# Altium integrated library ST Memory EPROM 16-512 Kbit.IntLib: 933 symbols (part 8 of 19)
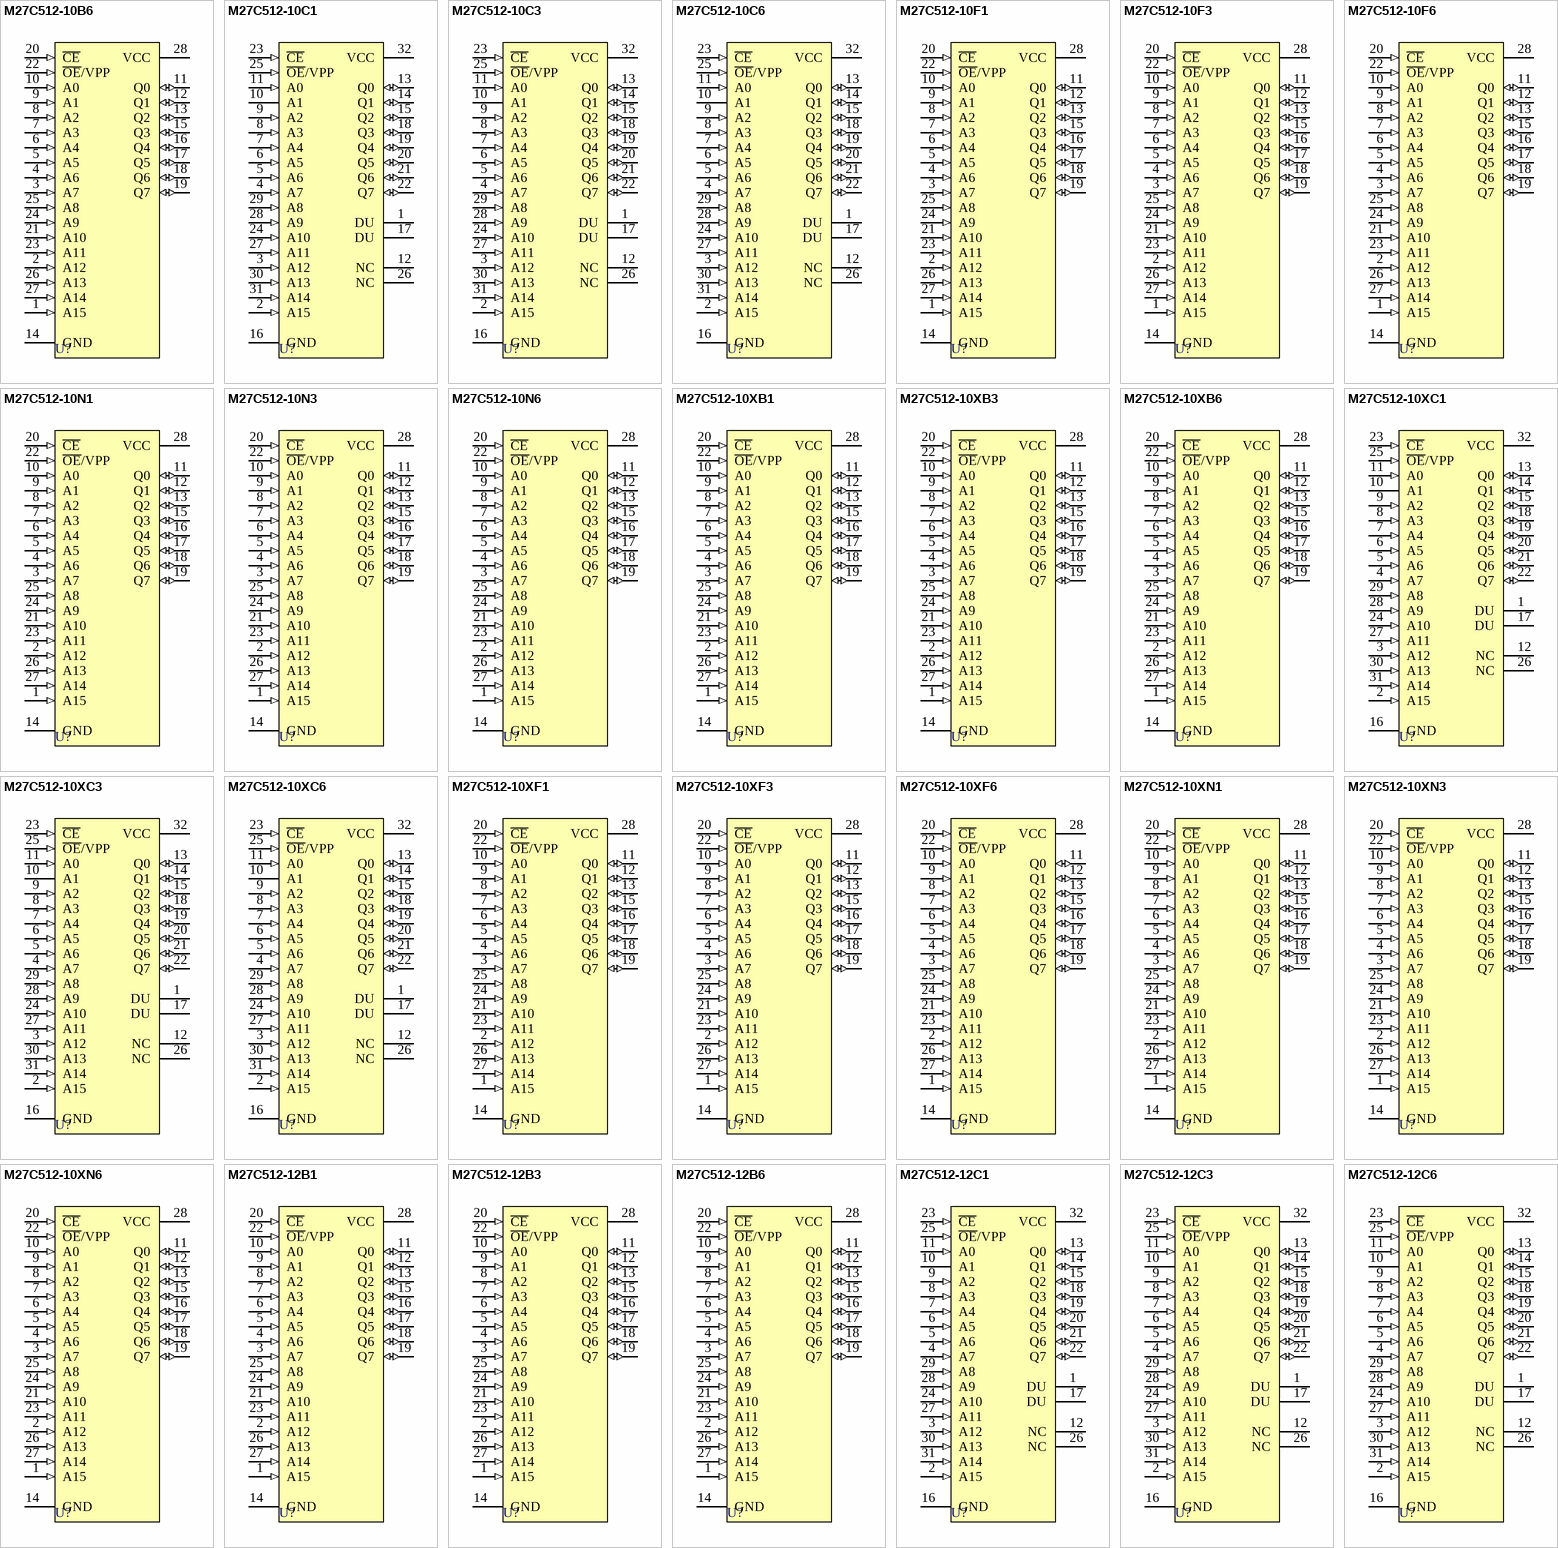
[diagram p41: symbols M27C512-10B6 to M27C512-12C6]

## M27C512-10C6
designator U?
512 Kbit (64Kb x 8) UV EPROM and OTP EPROM; Note: Do Not Use (DU) pin numbers 1 and 17.; Published: 24-Aug-2001; LatestRevisionDate: 6-Jun-2005; LatestRevisionNote: Stylized 3D Model Added.; DatasheetDocument: Nov-1998; PackageDocument: Jun-1998; PackageReference: PLCC32; Publisher: Altium Limited; Code_JEDEC: MS-016-AE; Code_IPC: PLCC/R-32; ComponentLink1Description: Manufacturer Link; ComponentLink1URL: http://www.st.com/; ComponentLink2Description: Datasheet; ComponentLink2URL: http://www.st.com/stonline/products/literature/ds/2387/m27c512.pdf
footprint PLCC32 (Leaded Chip Carrier; 32 Leads; Body 11.4 x 14 mm)
3D model M27C512-PLCC32 (Leaded Chip Carrier; 32 Leads; Body 11.4 x 14 mm)
pins: 1 DU, 2 A15 (in), 3 A12 (in), 4 A7 (in), 5 A6 (in), 6 A5 (in), 7 A4 (in), 8 A3 (in), 9 A2 (in), 10 A1, 11 A0 (in), 12 NC, 13 Q0 (io), 14 Q1 (io), 15 Q2 (io), 16 GND, 17 DU, 18 Q3 (io), 19 Q4 (io), 20 Q5 (io), 21 Q6 (io), 22 Q7 (io), 23 ~{CE} (in), 24 A10 (in), 25 ~{OE}/VPP (in), 26 NC, 27 A11 (in), 28 A9 (in), 29 A8 (in), 30 A13 (in), 31 A14 (in), 32 VCC

## M27C512-10F1
designator U?
512 Kbit (64Kb x 8) UV EPROM and OTP EPROM; Published: 24-Aug-2001; LatestRevisionDate: 6-Jun-2005; LatestRevisionNote: Stylized 3D Model Added.; DatasheetDocument: Nov-1998; PackageReference: FDIP28W; Publisher: Altium Limited; ComponentLink1Description: Manufacturer Link; ComponentLink1URL: http://www.st.com/; ComponentLink2Description: Datasheet; ComponentLink2URL: http://www.st.com/stonline/products/literature/ds/2387/m27c512.pdf
footprint FDIP28W (Ceramic Frit-seal DIP, Window; 28 Leads; Row Spacing 15.24 mm; Pitch 2.54 mm)
3D model FDIP28W (Ceramic Frit-seal DIP, Window; 28 Leads; Row Spacing 15.24 mm; Pitch 2.54 mm)
pins: 1 A15 (in), 2 A12 (in), 3 A7 (in), 4 A6 (in), 5 A5 (in), 6 A4 (in), 7 A3 (in), 8 A2 (in), 9 A1 (in), 10 A0 (in), 11 Q0 (io), 12 Q1 (io), 13 Q2 (io), 14 GND (power), 15 Q3 (io), 16 Q4 (io), 17 Q5 (io), 18 Q6 (io), 19 Q7 (io), 20 ~{CE} (in), 21 A10 (in), 22 ~{OE}/VPP (in), 23 A11 (in), 24 A9 (in), 25 A8 (in), 26 A13 (in), 27 A14 (in), 28 VCC (power)

## M27C512-10F3
designator U?
512 Kbit (64Kb x 8) UV EPROM and OTP EPROM; Published: 24-Aug-2001; LatestRevisionDate: 6-Jun-2005; LatestRevisionNote: Stylized 3D Model Added.; DatasheetDocument: Nov-1998; PackageReference: FDIP28W; Publisher: Altium Limited; ComponentLink1Description: Manufacturer Link; ComponentLink1URL: http://www.st.com/; ComponentLink2Description: Datasheet; ComponentLink2URL: http://www.st.com/stonline/products/literature/ds/2387/m27c512.pdf
footprint FDIP28W (Ceramic Frit-seal DIP, Window; 28 Leads; Row Spacing 15.24 mm; Pitch 2.54 mm)
3D model FDIP28W (Ceramic Frit-seal DIP, Window; 28 Leads; Row Spacing 15.24 mm; Pitch 2.54 mm)
pins: 1 A15 (in), 2 A12 (in), 3 A7 (in), 4 A6 (in), 5 A5 (in), 6 A4 (in), 7 A3 (in), 8 A2 (in), 9 A1 (in), 10 A0 (in), 11 Q0 (io), 12 Q1 (io), 13 Q2 (io), 14 GND (power), 15 Q3 (io), 16 Q4 (io), 17 Q5 (io), 18 Q6 (io), 19 Q7 (io), 20 ~{CE} (in), 21 A10 (in), 22 ~{OE}/VPP (in), 23 A11 (in), 24 A9 (in), 25 A8 (in), 26 A13 (in), 27 A14 (in), 28 VCC (power)

## M27C512-10F6
designator U?
512 Kbit (64Kb x 8) UV EPROM and OTP EPROM; Published: 24-Aug-2001; LatestRevisionDate: 6-Jun-2005; LatestRevisionNote: Stylized 3D Model Added.; DatasheetDocument: Nov-1998; PackageReference: FDIP28W; Publisher: Altium Limited; ComponentLink1Description: Manufacturer Link; ComponentLink1URL: http://www.st.com/; ComponentLink2Description: Datasheet; ComponentLink2URL: http://www.st.com/stonline/products/literature/ds/2387/m27c512.pdf
footprint FDIP28W (Ceramic Frit-seal DIP, Window; 28 Leads; Row Spacing 15.24 mm; Pitch 2.54 mm)
3D model FDIP28W (Ceramic Frit-seal DIP, Window; 28 Leads; Row Spacing 15.24 mm; Pitch 2.54 mm)
pins: 1 A15 (in), 2 A12 (in), 3 A7 (in), 4 A6 (in), 5 A5 (in), 6 A4 (in), 7 A3 (in), 8 A2 (in), 9 A1 (in), 10 A0 (in), 11 Q0 (io), 12 Q1 (io), 13 Q2 (io), 14 GND (power), 15 Q3 (io), 16 Q4 (io), 17 Q5 (io), 18 Q6 (io), 19 Q7 (io), 20 ~{CE} (in), 21 A10 (in), 22 ~{OE}/VPP (in), 23 A11 (in), 24 A9 (in), 25 A8 (in), 26 A13 (in), 27 A14 (in), 28 VCC (power)

## M27C512-10N1
designator U?
512 Kbit (64Kb x 8) UV EPROM and OTP EPROM; Published: 24-Aug-2001; LatestRevisionDate: 6-Jun-2005; LatestRevisionNote: Stylized 3D Model Added.; DatasheetDocument: Nov-1998; PackageDocument: Jul-1998; PackageReference: TSOP28; Publisher: Altium Limited; ComponentLink1Description: Manufacturer Link; ComponentLink1URL: http://www.st.com/; ComponentLink2Description: Datasheet; ComponentLink2URL: http://www.st.com/stonline/products/literature/ds/2387/m27c512.pdf
footprint TSOP28 (Shrink Small Outline; 28 Leads; Body Width 11.8 mm; Pitch 0.55 mm)
3D model TSOP28 (Shrink Small Outline; 28 Leads; Body Width 11.8 mm; Pitch 0.55 mm)
pins: 1 A15 (in), 2 A12 (in), 3 A7 (in), 4 A6 (in), 5 A5 (in), 6 A4 (in), 7 A3 (in), 8 A2 (in), 9 A1 (in), 10 A0 (in), 11 Q0 (io), 12 Q1 (io), 13 Q2 (io), 14 GND (power), 15 Q3 (io), 16 Q4 (io), 17 Q5 (io), 18 Q6 (io), 19 Q7 (io), 20 ~{CE} (in), 21 A10 (in), 22 ~{OE}/VPP (in), 23 A11 (in), 24 A9 (in), 25 A8 (in), 26 A13 (in), 27 A14 (in), 28 VCC (power)

## M27C512-10N3
designator U?
512 Kbit (64Kb x 8) UV EPROM and OTP EPROM; Published: 24-Aug-2001; LatestRevisionDate: 6-Jun-2005; LatestRevisionNote: Stylized 3D Model Added.; DatasheetDocument: Nov-1998; PackageDocument: Jul-1998; PackageReference: TSOP28; Publisher: Altium Limited; ComponentLink1Description: Manufacturer Link; ComponentLink1URL: http://www.st.com/; ComponentLink2Description: Datasheet; ComponentLink2URL: http://www.st.com/stonline/products/literature/ds/2387/m27c512.pdf
footprint TSOP28 (Shrink Small Outline; 28 Leads; Body Width 11.8 mm; Pitch 0.55 mm)
3D model TSOP28 (Shrink Small Outline; 28 Leads; Body Width 11.8 mm; Pitch 0.55 mm)
pins: 1 A15 (in), 2 A12 (in), 3 A7 (in), 4 A6 (in), 5 A5 (in), 6 A4 (in), 7 A3 (in), 8 A2 (in), 9 A1 (in), 10 A0 (in), 11 Q0 (io), 12 Q1 (io), 13 Q2 (io), 14 GND (power), 15 Q3 (io), 16 Q4 (io), 17 Q5 (io), 18 Q6 (io), 19 Q7 (io), 20 ~{CE} (in), 21 A10 (in), 22 ~{OE}/VPP (in), 23 A11 (in), 24 A9 (in), 25 A8 (in), 26 A13 (in), 27 A14 (in), 28 VCC (power)

## M27C512-10N6
designator U?
512 Kbit (64Kb x 8) UV EPROM and OTP EPROM; Published: 24-Aug-2001; LatestRevisionDate: 6-Jun-2005; LatestRevisionNote: Stylized 3D Model Added.; DatasheetDocument: Nov-1998; PackageDocument: Jul-1998; PackageReference: TSOP28; Publisher: Altium Limited; ComponentLink1Description: Manufacturer Link; ComponentLink1URL: http://www.st.com/; ComponentLink2Description: Datasheet; ComponentLink2URL: http://www.st.com/stonline/products/literature/ds/2387/m27c512.pdf
footprint TSOP28 (Shrink Small Outline; 28 Leads; Body Width 11.8 mm; Pitch 0.55 mm)
3D model TSOP28 (Shrink Small Outline; 28 Leads; Body Width 11.8 mm; Pitch 0.55 mm)
pins: 1 A15 (in), 2 A12 (in), 3 A7 (in), 4 A6 (in), 5 A5 (in), 6 A4 (in), 7 A3 (in), 8 A2 (in), 9 A1 (in), 10 A0 (in), 11 Q0 (io), 12 Q1 (io), 13 Q2 (io), 14 GND (power), 15 Q3 (io), 16 Q4 (io), 17 Q5 (io), 18 Q6 (io), 19 Q7 (io), 20 ~{CE} (in), 21 A10 (in), 22 ~{OE}/VPP (in), 23 A11 (in), 24 A9 (in), 25 A8 (in), 26 A13 (in), 27 A14 (in), 28 VCC (power)

## M27C512-10XB1
designator U?
512 Kbit (64Kb x 8) UV EPROM and OTP EPROM; Published: 24-Aug-2001; LatestRevisionDate: 6-Jun-2005; LatestRevisionNote: Stylized 3D Model Added.; DatasheetDocument: Nov-1998; PackageDocument: Jan-2003; PackageReference: PDIP28; Publisher: Altium Limited; ComponentLink1Description: Manufacturer Link; ComponentLink1URL: http://www.st.com/; ComponentLink2Description: Datasheet; ComponentLink2URL: http://www.st.com/stonline/products/literature/ds/2387/m27c512.pdf
footprint PDIP28 (DIP; 28 Leads; Row Spacing 15.24 mm; Pitch 2.54 mm)
3D model FDIP28W (DIP; 28 Leads; Row Spacing 15.24 mm; Pitch 2.54 mm)
pins: 1 A15 (in), 2 A12 (in), 3 A7 (in), 4 A6 (in), 5 A5 (in), 6 A4 (in), 7 A3 (in), 8 A2 (in), 9 A1 (in), 10 A0 (in), 11 Q0 (io), 12 Q1 (io), 13 Q2 (io), 14 GND (power), 15 Q3 (io), 16 Q4 (io), 17 Q5 (io), 18 Q6 (io), 19 Q7 (io), 20 ~{CE} (in), 21 A10 (in), 22 ~{OE}/VPP (in), 23 A11 (in), 24 A9 (in), 25 A8 (in), 26 A13 (in), 27 A14 (in), 28 VCC (power)

## M27C512-10XB3
designator U?
512 Kbit (64Kb x 8) UV EPROM and OTP EPROM; Published: 24-Aug-2001; LatestRevisionDate: 6-Jun-2005; LatestRevisionNote: Stylized 3D Model Added.; DatasheetDocument: Nov-1998; PackageDocument: Jan-2003; PackageReference: PDIP28; Publisher: Altium Limited; ComponentLink1Description: Manufacturer Link; ComponentLink1URL: http://www.st.com/; ComponentLink2Description: Datasheet; ComponentLink2URL: http://www.st.com/stonline/products/literature/ds/2387/m27c512.pdf
footprint PDIP28 (DIP; 28 Leads; Row Spacing 15.24 mm; Pitch 2.54 mm)
3D model FDIP28W (DIP; 28 Leads; Row Spacing 15.24 mm; Pitch 2.54 mm)
pins: 1 A15 (in), 2 A12 (in), 3 A7 (in), 4 A6 (in), 5 A5 (in), 6 A4 (in), 7 A3 (in), 8 A2 (in), 9 A1 (in), 10 A0 (in), 11 Q0 (io), 12 Q1 (io), 13 Q2 (io), 14 GND (power), 15 Q3 (io), 16 Q4 (io), 17 Q5 (io), 18 Q6 (io), 19 Q7 (io), 20 ~{CE} (in), 21 A10 (in), 22 ~{OE}/VPP (in), 23 A11 (in), 24 A9 (in), 25 A8 (in), 26 A13 (in), 27 A14 (in), 28 VCC (power)

## M27C512-10XB6
designator U?
512 Kbit (64Kb x 8) UV EPROM and OTP EPROM; Published: 24-Aug-2001; LatestRevisionDate: 6-Jun-2005; LatestRevisionNote: Stylized 3D Model Added.; DatasheetDocument: Nov-1998; PackageDocument: Jan-2003; PackageReference: PDIP28; Publisher: Altium Limited; ComponentLink1Description: Manufacturer Link; ComponentLink1URL: http://www.st.com/; ComponentLink2Description: Datasheet; ComponentLink2URL: http://www.st.com/stonline/products/literature/ds/2387/m27c512.pdf
footprint PDIP28 (DIP; 28 Leads; Row Spacing 15.24 mm; Pitch 2.54 mm)
3D model FDIP28W (DIP; 28 Leads; Row Spacing 15.24 mm; Pitch 2.54 mm)
pins: 1 A15 (in), 2 A12 (in), 3 A7 (in), 4 A6 (in), 5 A5 (in), 6 A4 (in), 7 A3 (in), 8 A2 (in), 9 A1 (in), 10 A0 (in), 11 Q0 (io), 12 Q1 (io), 13 Q2 (io), 14 GND (power), 15 Q3 (io), 16 Q4 (io), 17 Q5 (io), 18 Q6 (io), 19 Q7 (io), 20 ~{CE} (in), 21 A10 (in), 22 ~{OE}/VPP (in), 23 A11 (in), 24 A9 (in), 25 A8 (in), 26 A13 (in), 27 A14 (in), 28 VCC (power)

## M27C512-10XC1
designator U?
512 Kbit (64Kb x 8) UV EPROM and OTP EPROM; Note: Do Not Use (DU) pin numbers 1 and 17.; Published: 24-Aug-2001; LatestRevisionDate: 6-Jun-2005; LatestRevisionNote: Stylized 3D Model Added.; DatasheetDocument: Nov-1998; PackageDocument: Jun-1998; PackageReference: PLCC32; Publisher: Altium Limited; Code_JEDEC: MS-016-AE; Code_IPC: PLCC/R-32; ComponentLink1Description: Manufacturer Link; ComponentLink1URL: http://www.st.com/; ComponentLink2Description: Datasheet; ComponentLink2URL: http://www.st.com/stonline/products/literature/ds/2387/m27c512.pdf
footprint PLCC32 (Leaded Chip Carrier; 32 Leads; Body 11.4 x 14 mm)
3D model M27C512-PLCC32 (Leaded Chip Carrier; 32 Leads; Body 11.4 x 14 mm)
pins: 1 DU, 2 A15 (in), 3 A12 (in), 4 A7 (in), 5 A6 (in), 6 A5 (in), 7 A4 (in), 8 A3 (in), 9 A2 (in), 10 A1, 11 A0 (in), 12 NC, 13 Q0 (io), 14 Q1 (io), 15 Q2 (io), 16 GND, 17 DU, 18 Q3 (io), 19 Q4 (io), 20 Q5 (io), 21 Q6 (io), 22 Q7 (io), 23 ~{CE} (in), 24 A10 (in), 25 ~{OE}/VPP (in), 26 NC, 27 A11 (in), 28 A9 (in), 29 A8 (in), 30 A13 (in), 31 A14 (in), 32 VCC

## M27C512-10XC3
designator U?
512 Kbit (64Kb x 8) UV EPROM and OTP EPROM; Note: Do Not Use (DU) pin numbers 1 and 17.; Published: 24-Aug-2001; LatestRevisionDate: 6-Jun-2005; LatestRevisionNote: Stylized 3D Model Added.; DatasheetDocument: Nov-1998; PackageDocument: Jun-1998; PackageReference: PLCC32; Publisher: Altium Limited; Code_JEDEC: MS-016-AE; Code_IPC: PLCC/R-32; ComponentLink1Description: Manufacturer Link; ComponentLink1URL: http://www.st.com/; ComponentLink2Description: Datasheet; ComponentLink2URL: http://www.st.com/stonline/products/literature/ds/2387/m27c512.pdf
footprint PLCC32 (Leaded Chip Carrier; 32 Leads; Body 11.4 x 14 mm)
3D model M27C512-PLCC32 (Leaded Chip Carrier; 32 Leads; Body 11.4 x 14 mm)
pins: 1 DU, 2 A15 (in), 3 A12 (in), 4 A7 (in), 5 A6 (in), 6 A5 (in), 7 A4 (in), 8 A3 (in), 9 A2 (in), 10 A1, 11 A0 (in), 12 NC, 13 Q0 (io), 14 Q1 (io), 15 Q2 (io), 16 GND, 17 DU, 18 Q3 (io), 19 Q4 (io), 20 Q5 (io), 21 Q6 (io), 22 Q7 (io), 23 ~{CE} (in), 24 A10 (in), 25 ~{OE}/VPP (in), 26 NC, 27 A11 (in), 28 A9 (in), 29 A8 (in), 30 A13 (in), 31 A14 (in), 32 VCC

## M27C512-10XC6
designator U?
512 Kbit (64Kb x 8) UV EPROM and OTP EPROM; Note: Do Not Use (DU) pin numbers 1 and 17.; Published: 24-Aug-2001; LatestRevisionDate: 6-Jun-2005; LatestRevisionNote: Stylized 3D Model Added.; DatasheetDocument: Nov-1998; PackageDocument: Jun-1998; PackageReference: PLCC32; Publisher: Altium Limited; Code_JEDEC: MS-016-AE; Code_IPC: PLCC/R-32; ComponentLink1Description: Manufacturer Link; ComponentLink1URL: http://www.st.com/; ComponentLink2Description: Datasheet; ComponentLink2URL: http://www.st.com/stonline/products/literature/ds/2387/m27c512.pdf
footprint PLCC32 (Leaded Chip Carrier; 32 Leads; Body 11.4 x 14 mm)
3D model M27C512-PLCC32 (Leaded Chip Carrier; 32 Leads; Body 11.4 x 14 mm)
pins: 1 DU, 2 A15 (in), 3 A12 (in), 4 A7 (in), 5 A6 (in), 6 A5 (in), 7 A4 (in), 8 A3 (in), 9 A2 (in), 10 A1, 11 A0 (in), 12 NC, 13 Q0 (io), 14 Q1 (io), 15 Q2 (io), 16 GND, 17 DU, 18 Q3 (io), 19 Q4 (io), 20 Q5 (io), 21 Q6 (io), 22 Q7 (io), 23 ~{CE} (in), 24 A10 (in), 25 ~{OE}/VPP (in), 26 NC, 27 A11 (in), 28 A9 (in), 29 A8 (in), 30 A13 (in), 31 A14 (in), 32 VCC

## M27C512-10XF1
designator U?
512 Kbit (64Kb x 8) UV EPROM and OTP EPROM; Published: 24-Aug-2001; LatestRevisionDate: 6-Jun-2005; LatestRevisionNote: Stylized 3D Model Added.; DatasheetDocument: Nov-1998; PackageReference: FDIP28W; Publisher: Altium Limited; ComponentLink1Description: Manufacturer Link; ComponentLink1URL: http://www.st.com/; ComponentLink2Description: Datasheet; ComponentLink2URL: http://www.st.com/stonline/products/literature/ds/2387/m27c512.pdf
footprint FDIP28W (Ceramic Frit-seal DIP, Window; 28 Leads; Row Spacing 15.24 mm; Pitch 2.54 mm)
3D model FDIP28W (Ceramic Frit-seal DIP, Window; 28 Leads; Row Spacing 15.24 mm; Pitch 2.54 mm)
pins: 1 A15 (in), 2 A12 (in), 3 A7 (in), 4 A6 (in), 5 A5 (in), 6 A4 (in), 7 A3 (in), 8 A2 (in), 9 A1 (in), 10 A0 (in), 11 Q0 (io), 12 Q1 (io), 13 Q2 (io), 14 GND (power), 15 Q3 (io), 16 Q4 (io), 17 Q5 (io), 18 Q6 (io), 19 Q7 (io), 20 ~{CE} (in), 21 A10 (in), 22 ~{OE}/VPP (in), 23 A11 (in), 24 A9 (in), 25 A8 (in), 26 A13 (in), 27 A14 (in), 28 VCC (power)

## M27C512-10XF3
designator U?
512 Kbit (64Kb x 8) UV EPROM and OTP EPROM; Published: 24-Aug-2001; LatestRevisionDate: 6-Jun-2005; LatestRevisionNote: Stylized 3D Model Added.; DatasheetDocument: Nov-1998; PackageReference: FDIP28W; Publisher: Altium Limited; ComponentLink1Description: Manufacturer Link; ComponentLink1URL: http://www.st.com/; ComponentLink2Description: Datasheet; ComponentLink2URL: http://www.st.com/stonline/products/literature/ds/2387/m27c512.pdf
footprint FDIP28W (Ceramic Frit-seal DIP, Window; 28 Leads; Row Spacing 15.24 mm; Pitch 2.54 mm)
3D model FDIP28W (Ceramic Frit-seal DIP, Window; 28 Leads; Row Spacing 15.24 mm; Pitch 2.54 mm)
pins: 1 A15 (in), 2 A12 (in), 3 A7 (in), 4 A6 (in), 5 A5 (in), 6 A4 (in), 7 A3 (in), 8 A2 (in), 9 A1 (in), 10 A0 (in), 11 Q0 (io), 12 Q1 (io), 13 Q2 (io), 14 GND (power), 15 Q3 (io), 16 Q4 (io), 17 Q5 (io), 18 Q6 (io), 19 Q7 (io), 20 ~{CE} (in), 21 A10 (in), 22 ~{OE}/VPP (in), 23 A11 (in), 24 A9 (in), 25 A8 (in), 26 A13 (in), 27 A14 (in), 28 VCC (power)

## M27C512-10XF6
designator U?
512 Kbit (64Kb x 8) UV EPROM and OTP EPROM; Published: 24-Aug-2001; LatestRevisionDate: 6-Jun-2005; LatestRevisionNote: Stylized 3D Model Added.; DatasheetDocument: Nov-1998; PackageReference: FDIP28W; Publisher: Altium Limited; ComponentLink1Description: Manufacturer Link; ComponentLink1URL: http://www.st.com/; ComponentLink2Description: Datasheet; ComponentLink2URL: http://www.st.com/stonline/products/literature/ds/2387/m27c512.pdf
footprint FDIP28W (Ceramic Frit-seal DIP, Window; 28 Leads; Row Spacing 15.24 mm; Pitch 2.54 mm)
3D model FDIP28W (Ceramic Frit-seal DIP, Window; 28 Leads; Row Spacing 15.24 mm; Pitch 2.54 mm)
pins: 1 A15 (in), 2 A12 (in), 3 A7 (in), 4 A6 (in), 5 A5 (in), 6 A4 (in), 7 A3 (in), 8 A2 (in), 9 A1 (in), 10 A0 (in), 11 Q0 (io), 12 Q1 (io), 13 Q2 (io), 14 GND (power), 15 Q3 (io), 16 Q4 (io), 17 Q5 (io), 18 Q6 (io), 19 Q7 (io), 20 ~{CE} (in), 21 A10 (in), 22 ~{OE}/VPP (in), 23 A11 (in), 24 A9 (in), 25 A8 (in), 26 A13 (in), 27 A14 (in), 28 VCC (power)

## M27C512-10XN1
designator U?
512 Kbit (64Kb x 8) UV EPROM and OTP EPROM; Published: 24-Aug-2001; LatestRevisionDate: 6-Jun-2005; LatestRevisionNote: Stylized 3D Model Added.; DatasheetDocument: Nov-1998; PackageDocument: Jul-1998; PackageReference: TSOP28; Publisher: Altium Limited; ComponentLink1Description: Manufacturer Link; ComponentLink1URL: http://www.st.com/; ComponentLink2Description: Datasheet; ComponentLink2URL: http://www.st.com/stonline/products/literature/ds/2387/m27c512.pdf
footprint TSOP28 (Shrink Small Outline; 28 Leads; Body Width 11.8 mm; Pitch 0.55 mm)
3D model TSOP28 (Shrink Small Outline; 28 Leads; Body Width 11.8 mm; Pitch 0.55 mm)
pins: 1 A15 (in), 2 A12 (in), 3 A7 (in), 4 A6 (in), 5 A5 (in), 6 A4 (in), 7 A3 (in), 8 A2 (in), 9 A1 (in), 10 A0 (in), 11 Q0 (io), 12 Q1 (io), 13 Q2 (io), 14 GND (power), 15 Q3 (io), 16 Q4 (io), 17 Q5 (io), 18 Q6 (io), 19 Q7 (io), 20 ~{CE} (in), 21 A10 (in), 22 ~{OE}/VPP (in), 23 A11 (in), 24 A9 (in), 25 A8 (in), 26 A13 (in), 27 A14 (in), 28 VCC (power)

## M27C512-10XN3
designator U?
512 Kbit (64Kb x 8) UV EPROM and OTP EPROM; Published: 24-Aug-2001; LatestRevisionDate: 6-Jun-2005; LatestRevisionNote: Stylized 3D Model Added.; DatasheetDocument: Nov-1998; PackageDocument: Jul-1998; PackageReference: TSOP28; Publisher: Altium Limited; ComponentLink1Description: Manufacturer Link; ComponentLink1URL: http://www.st.com/; ComponentLink2Description: Datasheet; ComponentLink2URL: http://www.st.com/stonline/products/literature/ds/2387/m27c512.pdf
footprint TSOP28 (Shrink Small Outline; 28 Leads; Body Width 11.8 mm; Pitch 0.55 mm)
3D model TSOP28 (Shrink Small Outline; 28 Leads; Body Width 11.8 mm; Pitch 0.55 mm)
pins: 1 A15 (in), 2 A12 (in), 3 A7 (in), 4 A6 (in), 5 A5 (in), 6 A4 (in), 7 A3 (in), 8 A2 (in), 9 A1 (in), 10 A0 (in), 11 Q0 (io), 12 Q1 (io), 13 Q2 (io), 14 GND (power), 15 Q3 (io), 16 Q4 (io), 17 Q5 (io), 18 Q6 (io), 19 Q7 (io), 20 ~{CE} (in), 21 A10 (in), 22 ~{OE}/VPP (in), 23 A11 (in), 24 A9 (in), 25 A8 (in), 26 A13 (in), 27 A14 (in), 28 VCC (power)

## M27C512-10XN6
designator U?
512 Kbit (64Kb x 8) UV EPROM and OTP EPROM; Published: 24-Aug-2001; LatestRevisionDate: 6-Jun-2005; LatestRevisionNote: Stylized 3D Model Added.; DatasheetDocument: Nov-1998; PackageDocument: Jul-1998; PackageReference: TSOP28; Publisher: Altium Limited; ComponentLink1Description: Manufacturer Link; ComponentLink1URL: http://www.st.com/; ComponentLink2Description: Datasheet; ComponentLink2URL: http://www.st.com/stonline/products/literature/ds/2387/m27c512.pdf
footprint TSOP28 (Shrink Small Outline; 28 Leads; Body Width 11.8 mm; Pitch 0.55 mm)
3D model TSOP28 (Shrink Small Outline; 28 Leads; Body Width 11.8 mm; Pitch 0.55 mm)
pins: 1 A15 (in), 2 A12 (in), 3 A7 (in), 4 A6 (in), 5 A5 (in), 6 A4 (in), 7 A3 (in), 8 A2 (in), 9 A1 (in), 10 A0 (in), 11 Q0 (io), 12 Q1 (io), 13 Q2 (io), 14 GND (power), 15 Q3 (io), 16 Q4 (io), 17 Q5 (io), 18 Q6 (io), 19 Q7 (io), 20 ~{CE} (in), 21 A10 (in), 22 ~{OE}/VPP (in), 23 A11 (in), 24 A9 (in), 25 A8 (in), 26 A13 (in), 27 A14 (in), 28 VCC (power)

## M27C512-12B1
designator U?
512 Kbit (64Kb x 8) UV EPROM and OTP EPROM; Published: 24-Aug-2001; LatestRevisionDate: 6-Jun-2005; LatestRevisionNote: Stylized 3D Model Added.; DatasheetDocument: Nov-1998; PackageDocument: Jan-2003; PackageReference: PDIP28; Publisher: Altium Limited; ComponentLink1Description: Manufacturer Link; ComponentLink1URL: http://www.st.com/; ComponentLink2Description: Datasheet; ComponentLink2URL: http://www.st.com/stonline/products/literature/ds/2387/m27c512.pdf
footprint PDIP28 (DIP; 28 Leads; Row Spacing 15.24 mm; Pitch 2.54 mm)
3D model FDIP28W (DIP; 28 Leads; Row Spacing 15.24 mm; Pitch 2.54 mm)
pins: 1 A15 (in), 2 A12 (in), 3 A7 (in), 4 A6 (in), 5 A5 (in), 6 A4 (in), 7 A3 (in), 8 A2 (in), 9 A1 (in), 10 A0 (in), 11 Q0 (io), 12 Q1 (io), 13 Q2 (io), 14 GND (power), 15 Q3 (io), 16 Q4 (io), 17 Q5 (io), 18 Q6 (io), 19 Q7 (io), 20 ~{CE} (in), 21 A10 (in), 22 ~{OE}/VPP (in), 23 A11 (in), 24 A9 (in), 25 A8 (in), 26 A13 (in), 27 A14 (in), 28 VCC (power)

## M27C512-12B3
designator U?
512 Kbit (64Kb x 8) UV EPROM and OTP EPROM; Published: 24-Aug-2001; LatestRevisionDate: 6-Jun-2005; LatestRevisionNote: Stylized 3D Model Added.; DatasheetDocument: Nov-1998; PackageDocument: Jan-2003; PackageReference: PDIP28; Publisher: Altium Limited; ComponentLink1Description: Manufacturer Link; ComponentLink1URL: http://www.st.com/; ComponentLink2Description: Datasheet; ComponentLink2URL: http://www.st.com/stonline/products/literature/ds/2387/m27c512.pdf
footprint PDIP28 (DIP; 28 Leads; Row Spacing 15.24 mm; Pitch 2.54 mm)
3D model FDIP28W (DIP; 28 Leads; Row Spacing 15.24 mm; Pitch 2.54 mm)
pins: 1 A15 (in), 2 A12 (in), 3 A7 (in), 4 A6 (in), 5 A5 (in), 6 A4 (in), 7 A3 (in), 8 A2 (in), 9 A1 (in), 10 A0 (in), 11 Q0 (io), 12 Q1 (io), 13 Q2 (io), 14 GND (power), 15 Q3 (io), 16 Q4 (io), 17 Q5 (io), 18 Q6 (io), 19 Q7 (io), 20 ~{CE} (in), 21 A10 (in), 22 ~{OE}/VPP (in), 23 A11 (in), 24 A9 (in), 25 A8 (in), 26 A13 (in), 27 A14 (in), 28 VCC (power)

## M27C512-12B6
designator U?
512 Kbit (64Kb x 8) UV EPROM and OTP EPROM; Published: 24-Aug-2001; LatestRevisionDate: 6-Jun-2005; LatestRevisionNote: Stylized 3D Model Added.; DatasheetDocument: Nov-1998; PackageDocument: Jan-2003; PackageReference: PDIP28; Publisher: Altium Limited; ComponentLink1Description: Manufacturer Link; ComponentLink1URL: http://www.st.com/; ComponentLink2Description: Datasheet; ComponentLink2URL: http://www.st.com/stonline/products/literature/ds/2387/m27c512.pdf
footprint PDIP28 (DIP; 28 Leads; Row Spacing 15.24 mm; Pitch 2.54 mm)
3D model FDIP28W (DIP; 28 Leads; Row Spacing 15.24 mm; Pitch 2.54 mm)
pins: 1 A15 (in), 2 A12 (in), 3 A7 (in), 4 A6 (in), 5 A5 (in), 6 A4 (in), 7 A3 (in), 8 A2 (in), 9 A1 (in), 10 A0 (in), 11 Q0 (io), 12 Q1 (io), 13 Q2 (io), 14 GND (power), 15 Q3 (io), 16 Q4 (io), 17 Q5 (io), 18 Q6 (io), 19 Q7 (io), 20 ~{CE} (in), 21 A10 (in), 22 ~{OE}/VPP (in), 23 A11 (in), 24 A9 (in), 25 A8 (in), 26 A13 (in), 27 A14 (in), 28 VCC (power)

## M27C512-12C1
designator U?
512 Kbit (64Kb x 8) UV EPROM and OTP EPROM; Note: Do Not Use (DU) pin numbers 1 and 17.; Published: 24-Aug-2001; LatestRevisionDate: 6-Jun-2005; LatestRevisionNote: Stylized 3D Model Added.; DatasheetDocument: Nov-1998; PackageDocument: Jun-1998; PackageReference: PLCC32; Publisher: Altium Limited; Code_JEDEC: MS-016-AE; Code_IPC: PLCC/R-32; ComponentLink1Description: Manufacturer Link; ComponentLink1URL: http://www.st.com/; ComponentLink2Description: Datasheet; ComponentLink2URL: http://www.st.com/stonline/products/literature/ds/2387/m27c512.pdf
footprint PLCC32 (Leaded Chip Carrier; 32 Leads; Body 11.4 x 14 mm)
3D model M27C512-PLCC32 (Leaded Chip Carrier; 32 Leads; Body 11.4 x 14 mm)
pins: 1 DU, 2 A15 (in), 3 A12 (in), 4 A7 (in), 5 A6 (in), 6 A5 (in), 7 A4 (in), 8 A3 (in), 9 A2 (in), 10 A1, 11 A0 (in), 12 NC, 13 Q0 (io), 14 Q1 (io), 15 Q2 (io), 16 GND, 17 DU, 18 Q3 (io), 19 Q4 (io), 20 Q5 (io), 21 Q6 (io), 22 Q7 (io), 23 ~{CE} (in), 24 A10 (in), 25 ~{OE}/VPP (in), 26 NC, 27 A11 (in), 28 A9 (in), 29 A8 (in), 30 A13 (in), 31 A14 (in), 32 VCC

## M27C512-12C3
designator U?
512 Kbit (64Kb x 8) UV EPROM and OTP EPROM; Note: Do Not Use (DU) pin numbers 1 and 17.; Published: 24-Aug-2001; LatestRevisionDate: 6-Jun-2005; LatestRevisionNote: Stylized 3D Model Added.; DatasheetDocument: Nov-1998; PackageDocument: Jun-1998; PackageReference: PLCC32; Publisher: Altium Limited; Code_JEDEC: MS-016-AE; Code_IPC: PLCC/R-32; ComponentLink1Description: Manufacturer Link; ComponentLink1URL: http://www.st.com/; ComponentLink2Description: Datasheet; ComponentLink2URL: http://www.st.com/stonline/products/literature/ds/2387/m27c512.pdf
footprint PLCC32 (Leaded Chip Carrier; 32 Leads; Body 11.4 x 14 mm)
3D model M27C512-PLCC32 (Leaded Chip Carrier; 32 Leads; Body 11.4 x 14 mm)
pins: 1 DU, 2 A15 (in), 3 A12 (in), 4 A7 (in), 5 A6 (in), 6 A5 (in), 7 A4 (in), 8 A3 (in), 9 A2 (in), 10 A1, 11 A0 (in), 12 NC, 13 Q0 (io), 14 Q1 (io), 15 Q2 (io), 16 GND, 17 DU, 18 Q3 (io), 19 Q4 (io), 20 Q5 (io), 21 Q6 (io), 22 Q7 (io), 23 ~{CE} (in), 24 A10 (in), 25 ~{OE}/VPP (in), 26 NC, 27 A11 (in), 28 A9 (in), 29 A8 (in), 30 A13 (in), 31 A14 (in), 32 VCC

## M27C512-12C6
designator U?
512 Kbit (64Kb x 8) UV EPROM and OTP EPROM; Note: Do Not Use (DU) pin numbers 1 and 17.; Published: 24-Aug-2001; LatestRevisionDate: 6-Jun-2005; LatestRevisionNote: Stylized 3D Model Added.; DatasheetDocument: Nov-1998; PackageDocument: Jun-1998; PackageReference: PLCC32; Publisher: Altium Limited; Code_JEDEC: MS-016-AE; Code_IPC: PLCC/R-32; ComponentLink1Description: Manufacturer Link; ComponentLink1URL: http://www.st.com/; ComponentLink2Description: Datasheet; ComponentLink2URL: http://www.st.com/stonline/products/literature/ds/2387/m27c512.pdf
footprint PLCC32 (Leaded Chip Carrier; 32 Leads; Body 11.4 x 14 mm)
3D model M27C512-PLCC32 (Leaded Chip Carrier; 32 Leads; Body 11.4 x 14 mm)
pins: 1 DU, 2 A15 (in), 3 A12 (in), 4 A7 (in), 5 A6 (in), 6 A5 (in), 7 A4 (in), 8 A3 (in), 9 A2 (in), 10 A1, 11 A0 (in), 12 NC, 13 Q0 (io), 14 Q1 (io), 15 Q2 (io), 16 GND, 17 DU, 18 Q3 (io), 19 Q4 (io), 20 Q5 (io), 21 Q6 (io), 22 Q7 (io), 23 ~{CE} (in), 24 A10 (in), 25 ~{OE}/VPP (in), 26 NC, 27 A11 (in), 28 A9 (in), 29 A8 (in), 30 A13 (in), 31 A14 (in), 32 VCC

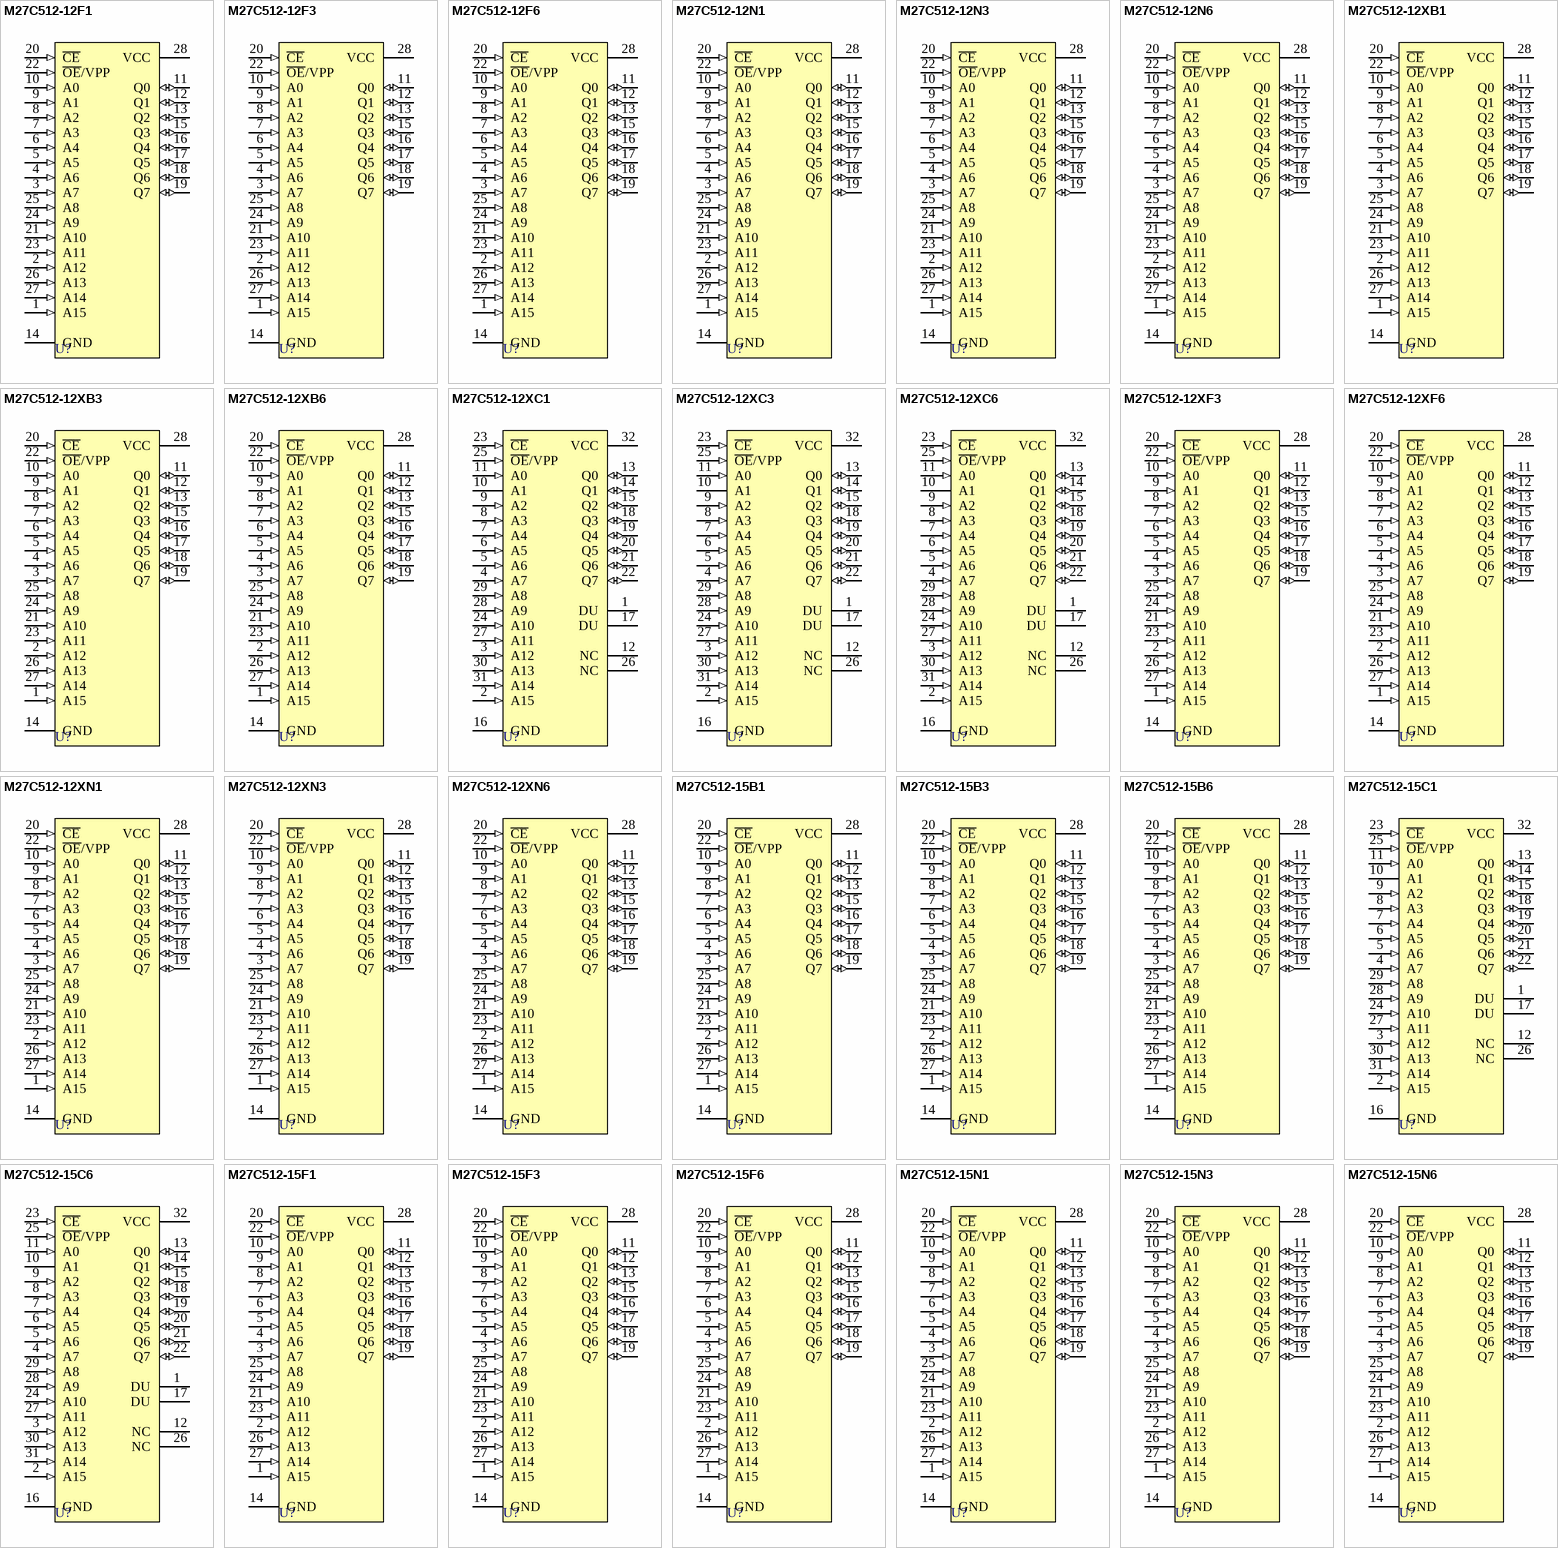
[diagram p13: symbols M27C512-12F1 to M27C512-15N6]

## M27C512-12F1
designator U?
512 Kbit (64Kb x 8) UV EPROM and OTP EPROM; Published: 24-Aug-2001; LatestRevisionDate: 6-Jun-2005; LatestRevisionNote: Stylized 3D Model Added.; DatasheetDocument: Nov-1998; PackageReference: FDIP28W; Publisher: Altium Limited; ComponentLink1Description: Manufacturer Link; ComponentLink1URL: http://www.st.com/; ComponentLink2Description: Datasheet; ComponentLink2URL: http://www.st.com/stonline/products/literature/ds/2387/m27c512.pdf
footprint FDIP28W (Ceramic Frit-seal DIP, Window; 28 Leads; Row Spacing 15.24 mm; Pitch 2.54 mm)
3D model FDIP28W (Ceramic Frit-seal DIP, Window; 28 Leads; Row Spacing 15.24 mm; Pitch 2.54 mm)
pins: 1 A15 (in), 2 A12 (in), 3 A7 (in), 4 A6 (in), 5 A5 (in), 6 A4 (in), 7 A3 (in), 8 A2 (in), 9 A1 (in), 10 A0 (in), 11 Q0 (io), 12 Q1 (io), 13 Q2 (io), 14 GND (power), 15 Q3 (io), 16 Q4 (io), 17 Q5 (io), 18 Q6 (io), 19 Q7 (io), 20 ~{CE} (in), 21 A10 (in), 22 ~{OE}/VPP (in), 23 A11 (in), 24 A9 (in), 25 A8 (in), 26 A13 (in), 27 A14 (in), 28 VCC (power)

## M27C512-12F3
designator U?
512 Kbit (64Kb x 8) UV EPROM and OTP EPROM; Published: 24-Aug-2001; LatestRevisionDate: 6-Jun-2005; LatestRevisionNote: Stylized 3D Model Added.; DatasheetDocument: Nov-1998; PackageReference: FDIP28W; Publisher: Altium Limited; ComponentLink1Description: Manufacturer Link; ComponentLink1URL: http://www.st.com/; ComponentLink2Description: Datasheet; ComponentLink2URL: http://www.st.com/stonline/products/literature/ds/2387/m27c512.pdf
footprint FDIP28W (Ceramic Frit-seal DIP, Window; 28 Leads; Row Spacing 15.24 mm; Pitch 2.54 mm)
3D model FDIP28W (Ceramic Frit-seal DIP, Window; 28 Leads; Row Spacing 15.24 mm; Pitch 2.54 mm)
pins: 1 A15 (in), 2 A12 (in), 3 A7 (in), 4 A6 (in), 5 A5 (in), 6 A4 (in), 7 A3 (in), 8 A2 (in), 9 A1 (in), 10 A0 (in), 11 Q0 (io), 12 Q1 (io), 13 Q2 (io), 14 GND (power), 15 Q3 (io), 16 Q4 (io), 17 Q5 (io), 18 Q6 (io), 19 Q7 (io), 20 ~{CE} (in), 21 A10 (in), 22 ~{OE}/VPP (in), 23 A11 (in), 24 A9 (in), 25 A8 (in), 26 A13 (in), 27 A14 (in), 28 VCC (power)

## M27C512-12F6
designator U?
512 Kbit (64Kb x 8) UV EPROM and OTP EPROM; Published: 24-Aug-2001; LatestRevisionDate: 6-Jun-2005; LatestRevisionNote: Stylized 3D Model Added.; DatasheetDocument: Nov-1998; PackageReference: FDIP28W; Publisher: Altium Limited; ComponentLink1Description: Manufacturer Link; ComponentLink1URL: http://www.st.com/; ComponentLink2Description: Datasheet; ComponentLink2URL: http://www.st.com/stonline/products/literature/ds/2387/m27c512.pdf
footprint FDIP28W (Ceramic Frit-seal DIP, Window; 28 Leads; Row Spacing 15.24 mm; Pitch 2.54 mm)
3D model FDIP28W (Ceramic Frit-seal DIP, Window; 28 Leads; Row Spacing 15.24 mm; Pitch 2.54 mm)
pins: 1 A15 (in), 2 A12 (in), 3 A7 (in), 4 A6 (in), 5 A5 (in), 6 A4 (in), 7 A3 (in), 8 A2 (in), 9 A1 (in), 10 A0 (in), 11 Q0 (io), 12 Q1 (io), 13 Q2 (io), 14 GND (power), 15 Q3 (io), 16 Q4 (io), 17 Q5 (io), 18 Q6 (io), 19 Q7 (io), 20 ~{CE} (in), 21 A10 (in), 22 ~{OE}/VPP (in), 23 A11 (in), 24 A9 (in), 25 A8 (in), 26 A13 (in), 27 A14 (in), 28 VCC (power)

## M27C512-12N1
designator U?
512 Kbit (64Kb x 8) UV EPROM and OTP EPROM; Published: 24-Aug-2001; LatestRevisionDate: 6-Jun-2005; LatestRevisionNote: Stylized 3D Model Added.; DatasheetDocument: Nov-1998; PackageDocument: Jul-1998; PackageReference: TSOP28; Publisher: Altium Limited; ComponentLink1Description: Manufacturer Link; ComponentLink1URL: http://www.st.com/; ComponentLink2Description: Datasheet; ComponentLink2URL: http://www.st.com/stonline/products/literature/ds/2387/m27c512.pdf
footprint TSOP28 (Shrink Small Outline; 28 Leads; Body Width 11.8 mm; Pitch 0.55 mm)
3D model TSOP28 (Shrink Small Outline; 28 Leads; Body Width 11.8 mm; Pitch 0.55 mm)
pins: 1 A15 (in), 2 A12 (in), 3 A7 (in), 4 A6 (in), 5 A5 (in), 6 A4 (in), 7 A3 (in), 8 A2 (in), 9 A1 (in), 10 A0 (in), 11 Q0 (io), 12 Q1 (io), 13 Q2 (io), 14 GND (power), 15 Q3 (io), 16 Q4 (io), 17 Q5 (io), 18 Q6 (io), 19 Q7 (io), 20 ~{CE} (in), 21 A10 (in), 22 ~{OE}/VPP (in), 23 A11 (in), 24 A9 (in), 25 A8 (in), 26 A13 (in), 27 A14 (in), 28 VCC (power)

## M27C512-12N3
designator U?
512 Kbit (64Kb x 8) UV EPROM and OTP EPROM; Published: 24-Aug-2001; LatestRevisionDate: 6-Jun-2005; LatestRevisionNote: Stylized 3D Model Added.; DatasheetDocument: Nov-1998; PackageDocument: Jul-1998; PackageReference: TSOP28; Publisher: Altium Limited; ComponentLink1Description: Manufacturer Link; ComponentLink1URL: http://www.st.com/; ComponentLink2Description: Datasheet; ComponentLink2URL: http://www.st.com/stonline/products/literature/ds/2387/m27c512.pdf
footprint TSOP28 (Shrink Small Outline; 28 Leads; Body Width 11.8 mm; Pitch 0.55 mm)
3D model TSOP28 (Shrink Small Outline; 28 Leads; Body Width 11.8 mm; Pitch 0.55 mm)
pins: 1 A15 (in), 2 A12 (in), 3 A7 (in), 4 A6 (in), 5 A5 (in), 6 A4 (in), 7 A3 (in), 8 A2 (in), 9 A1 (in), 10 A0 (in), 11 Q0 (io), 12 Q1 (io), 13 Q2 (io), 14 GND (power), 15 Q3 (io), 16 Q4 (io), 17 Q5 (io), 18 Q6 (io), 19 Q7 (io), 20 ~{CE} (in), 21 A10 (in), 22 ~{OE}/VPP (in), 23 A11 (in), 24 A9 (in), 25 A8 (in), 26 A13 (in), 27 A14 (in), 28 VCC (power)

## M27C512-12N6
designator U?
512 Kbit (64Kb x 8) UV EPROM and OTP EPROM; Published: 24-Aug-2001; LatestRevisionDate: 6-Jun-2005; LatestRevisionNote: Stylized 3D Model Added.; DatasheetDocument: Nov-1998; PackageDocument: Jul-1998; PackageReference: TSOP28; Publisher: Altium Limited; ComponentLink1Description: Manufacturer Link; ComponentLink1URL: http://www.st.com/; ComponentLink2Description: Datasheet; ComponentLink2URL: http://www.st.com/stonline/products/literature/ds/2387/m27c512.pdf
footprint TSOP28 (Shrink Small Outline; 28 Leads; Body Width 11.8 mm; Pitch 0.55 mm)
3D model TSOP28 (Shrink Small Outline; 28 Leads; Body Width 11.8 mm; Pitch 0.55 mm)
pins: 1 A15 (in), 2 A12 (in), 3 A7 (in), 4 A6 (in), 5 A5 (in), 6 A4 (in), 7 A3 (in), 8 A2 (in), 9 A1 (in), 10 A0 (in), 11 Q0 (io), 12 Q1 (io), 13 Q2 (io), 14 GND (power), 15 Q3 (io), 16 Q4 (io), 17 Q5 (io), 18 Q6 (io), 19 Q7 (io), 20 ~{CE} (in), 21 A10 (in), 22 ~{OE}/VPP (in), 23 A11 (in), 24 A9 (in), 25 A8 (in), 26 A13 (in), 27 A14 (in), 28 VCC (power)

## M27C512-12XB1
designator U?
512 Kbit (64Kb x 8) UV EPROM and OTP EPROM; Published: 24-Aug-2001; LatestRevisionDate: 6-Jun-2005; LatestRevisionNote: Stylized 3D Model Added.; DatasheetDocument: Nov-1998; PackageDocument: Jan-2003; PackageReference: PDIP28; Publisher: Altium Limited; ComponentLink1Description: Manufacturer Link; ComponentLink1URL: http://www.st.com/; ComponentLink2Description: Datasheet; ComponentLink2URL: http://www.st.com/stonline/products/literature/ds/2387/m27c512.pdf
footprint PDIP28 (DIP; 28 Leads; Row Spacing 15.24 mm; Pitch 2.54 mm)
3D model FDIP28W (DIP; 28 Leads; Row Spacing 15.24 mm; Pitch 2.54 mm)
pins: 1 A15 (in), 2 A12 (in), 3 A7 (in), 4 A6 (in), 5 A5 (in), 6 A4 (in), 7 A3 (in), 8 A2 (in), 9 A1 (in), 10 A0 (in), 11 Q0 (io), 12 Q1 (io), 13 Q2 (io), 14 GND (power), 15 Q3 (io), 16 Q4 (io), 17 Q5 (io), 18 Q6 (io), 19 Q7 (io), 20 ~{CE} (in), 21 A10 (in), 22 ~{OE}/VPP (in), 23 A11 (in), 24 A9 (in), 25 A8 (in), 26 A13 (in), 27 A14 (in), 28 VCC (power)

## M27C512-12XB3
designator U?
512 Kbit (64Kb x 8) UV EPROM and OTP EPROM; Published: 24-Aug-2001; LatestRevisionDate: 6-Jun-2005; LatestRevisionNote: Stylized 3D Model Added.; DatasheetDocument: Nov-1998; PackageDocument: Jan-2003; PackageReference: PDIP28; Publisher: Altium Limited; ComponentLink1Description: Manufacturer Link; ComponentLink1URL: http://www.st.com/; ComponentLink2Description: Datasheet; ComponentLink2URL: http://www.st.com/stonline/products/literature/ds/2387/m27c512.pdf
footprint PDIP28 (DIP; 28 Leads; Row Spacing 15.24 mm; Pitch 2.54 mm)
3D model FDIP28W (DIP; 28 Leads; Row Spacing 15.24 mm; Pitch 2.54 mm)
pins: 1 A15 (in), 2 A12 (in), 3 A7 (in), 4 A6 (in), 5 A5 (in), 6 A4 (in), 7 A3 (in), 8 A2 (in), 9 A1 (in), 10 A0 (in), 11 Q0 (io), 12 Q1 (io), 13 Q2 (io), 14 GND (power), 15 Q3 (io), 16 Q4 (io), 17 Q5 (io), 18 Q6 (io), 19 Q7 (io), 20 ~{CE} (in), 21 A10 (in), 22 ~{OE}/VPP (in), 23 A11 (in), 24 A9 (in), 25 A8 (in), 26 A13 (in), 27 A14 (in), 28 VCC (power)

## M27C512-12XB6
designator U?
512 Kbit (64Kb x 8) UV EPROM and OTP EPROM; Published: 24-Aug-2001; LatestRevisionDate: 6-Jun-2005; LatestRevisionNote: Stylized 3D Model Added.; DatasheetDocument: Nov-1998; PackageDocument: Jan-2003; PackageReference: PDIP28; Publisher: Altium Limited; ComponentLink1Description: Manufacturer Link; ComponentLink1URL: http://www.st.com/; ComponentLink2Description: Datasheet; ComponentLink2URL: http://www.st.com/stonline/products/literature/ds/2387/m27c512.pdf
footprint PDIP28 (DIP; 28 Leads; Row Spacing 15.24 mm; Pitch 2.54 mm)
3D model FDIP28W (DIP; 28 Leads; Row Spacing 15.24 mm; Pitch 2.54 mm)
pins: 1 A15 (in), 2 A12 (in), 3 A7 (in), 4 A6 (in), 5 A5 (in), 6 A4 (in), 7 A3 (in), 8 A2 (in), 9 A1 (in), 10 A0 (in), 11 Q0 (io), 12 Q1 (io), 13 Q2 (io), 14 GND (power), 15 Q3 (io), 16 Q4 (io), 17 Q5 (io), 18 Q6 (io), 19 Q7 (io), 20 ~{CE} (in), 21 A10 (in), 22 ~{OE}/VPP (in), 23 A11 (in), 24 A9 (in), 25 A8 (in), 26 A13 (in), 27 A14 (in), 28 VCC (power)

## M27C512-12XC1
designator U?
512 Kbit (64Kb x 8) UV EPROM and OTP EPROM; Note: Do Not Use (DU) pin numbers 1 and 17.; Published: 24-Aug-2001; LatestRevisionDate: 6-Jun-2005; LatestRevisionNote: Stylized 3D Model Added.; DatasheetDocument: Nov-1998; PackageDocument: Jun-1998; PackageReference: PLCC32; Publisher: Altium Limited; Code_JEDEC: MS-016-AE; Code_IPC: PLCC/R-32; ComponentLink1Description: Manufacturer Link; ComponentLink1URL: http://www.st.com/; ComponentLink2Description: Datasheet; ComponentLink2URL: http://www.st.com/stonline/products/literature/ds/2387/m27c512.pdf
footprint PLCC32 (Leaded Chip Carrier; 32 Leads; Body 11.4 x 14 mm)
3D model M27C512-PLCC32 (Leaded Chip Carrier; 32 Leads; Body 11.4 x 14 mm)
pins: 1 DU, 2 A15 (in), 3 A12 (in), 4 A7 (in), 5 A6 (in), 6 A5 (in), 7 A4 (in), 8 A3 (in), 9 A2 (in), 10 A1, 11 A0 (in), 12 NC, 13 Q0 (io), 14 Q1 (io), 15 Q2 (io), 16 GND, 17 DU, 18 Q3 (io), 19 Q4 (io), 20 Q5 (io), 21 Q6 (io), 22 Q7 (io), 23 ~{CE} (in), 24 A10 (in), 25 ~{OE}/VPP (in), 26 NC, 27 A11 (in), 28 A9 (in), 29 A8 (in), 30 A13 (in), 31 A14 (in), 32 VCC

## M27C512-12XC3
designator U?
512 Kbit (64Kb x 8) UV EPROM and OTP EPROM; Note: Do Not Use (DU) pin numbers 1 and 17.; Published: 24-Aug-2001; LatestRevisionDate: 6-Jun-2005; LatestRevisionNote: Stylized 3D Model Added.; DatasheetDocument: Nov-1998; PackageDocument: Jun-1998; PackageReference: PLCC32; Publisher: Altium Limited; Code_JEDEC: MS-016-AE; Code_IPC: PLCC/R-32; ComponentLink1Description: Manufacturer Link; ComponentLink1URL: http://www.st.com/; ComponentLink2Description: Datasheet; ComponentLink2URL: http://www.st.com/stonline/products/literature/ds/2387/m27c512.pdf
footprint PLCC32 (Leaded Chip Carrier; 32 Leads; Body 11.4 x 14 mm)
3D model M27C512-PLCC32 (Leaded Chip Carrier; 32 Leads; Body 11.4 x 14 mm)
pins: 1 DU, 2 A15 (in), 3 A12 (in), 4 A7 (in), 5 A6 (in), 6 A5 (in), 7 A4 (in), 8 A3 (in), 9 A2 (in), 10 A1, 11 A0 (in), 12 NC, 13 Q0 (io), 14 Q1 (io), 15 Q2 (io), 16 GND, 17 DU, 18 Q3 (io), 19 Q4 (io), 20 Q5 (io), 21 Q6 (io), 22 Q7 (io), 23 ~{CE} (in), 24 A10 (in), 25 ~{OE}/VPP (in), 26 NC, 27 A11 (in), 28 A9 (in), 29 A8 (in), 30 A13 (in), 31 A14 (in), 32 VCC

## M27C512-12XC6
designator U?
512 Kbit (64Kb x 8) UV EPROM and OTP EPROM; Note: Do Not Use (DU) pin numbers 1 and 17.; Published: 24-Aug-2001; LatestRevisionDate: 6-Jun-2005; LatestRevisionNote: Stylized 3D Model Added.; DatasheetDocument: Nov-1998; PackageDocument: Jun-1998; PackageReference: PLCC32; Publisher: Altium Limited; Code_JEDEC: MS-016-AE; Code_IPC: PLCC/R-32; ComponentLink1Description: Manufacturer Link; ComponentLink1URL: http://www.st.com/; ComponentLink2Description: Datasheet; ComponentLink2URL: http://www.st.com/stonline/products/literature/ds/2387/m27c512.pdf
footprint PLCC32 (Leaded Chip Carrier; 32 Leads; Body 11.4 x 14 mm)
3D model M27C512-PLCC32 (Leaded Chip Carrier; 32 Leads; Body 11.4 x 14 mm)
pins: 1 DU, 2 A15 (in), 3 A12 (in), 4 A7 (in), 5 A6 (in), 6 A5 (in), 7 A4 (in), 8 A3 (in), 9 A2 (in), 10 A1, 11 A0 (in), 12 NC, 13 Q0 (io), 14 Q1 (io), 15 Q2 (io), 16 GND, 17 DU, 18 Q3 (io), 19 Q4 (io), 20 Q5 (io), 21 Q6 (io), 22 Q7 (io), 23 ~{CE} (in), 24 A10 (in), 25 ~{OE}/VPP (in), 26 NC, 27 A11 (in), 28 A9 (in), 29 A8 (in), 30 A13 (in), 31 A14 (in), 32 VCC

## M27C512-12XF3
designator U?
512 Kbit (64Kb x 8) UV EPROM and OTP EPROM; Published: 24-Aug-2001; LatestRevisionDate: 6-Jun-2005; LatestRevisionNote: Stylized 3D Model Added.; DatasheetDocument: Nov-1998; PackageReference: FDIP28W; Publisher: Altium Limited; ComponentLink1Description: Manufacturer Link; ComponentLink1URL: http://www.st.com/; ComponentLink2Description: Datasheet; ComponentLink2URL: http://www.st.com/stonline/products/literature/ds/2387/m27c512.pdf
footprint FDIP28W (Ceramic Frit-seal DIP, Window; 28 Leads; Row Spacing 15.24 mm; Pitch 2.54 mm)
3D model FDIP28W (Ceramic Frit-seal DIP, Window; 28 Leads; Row Spacing 15.24 mm; Pitch 2.54 mm)
pins: 1 A15 (in), 2 A12 (in), 3 A7 (in), 4 A6 (in), 5 A5 (in), 6 A4 (in), 7 A3 (in), 8 A2 (in), 9 A1 (in), 10 A0 (in), 11 Q0 (io), 12 Q1 (io), 13 Q2 (io), 14 GND (power), 15 Q3 (io), 16 Q4 (io), 17 Q5 (io), 18 Q6 (io), 19 Q7 (io), 20 ~{CE} (in), 21 A10 (in), 22 ~{OE}/VPP (in), 23 A11 (in), 24 A9 (in), 25 A8 (in), 26 A13 (in), 27 A14 (in), 28 VCC (power)

## M27C512-12XF6
designator U?
512 Kbit (64Kb x 8) UV EPROM and OTP EPROM; Published: 24-Aug-2001; LatestRevisionDate: 6-Jun-2005; LatestRevisionNote: Stylized 3D Model Added.; DatasheetDocument: Nov-1998; PackageReference: FDIP28W; Publisher: Altium Limited; ComponentLink1Description: Manufacturer Link; ComponentLink1URL: http://www.st.com/; ComponentLink2Description: Datasheet; ComponentLink2URL: http://www.st.com/stonline/products/literature/ds/2387/m27c512.pdf
footprint FDIP28W (Ceramic Frit-seal DIP, Window; 28 Leads; Row Spacing 15.24 mm; Pitch 2.54 mm)
3D model FDIP28W (Ceramic Frit-seal DIP, Window; 28 Leads; Row Spacing 15.24 mm; Pitch 2.54 mm)
pins: 1 A15 (in), 2 A12 (in), 3 A7 (in), 4 A6 (in), 5 A5 (in), 6 A4 (in), 7 A3 (in), 8 A2 (in), 9 A1 (in), 10 A0 (in), 11 Q0 (io), 12 Q1 (io), 13 Q2 (io), 14 GND (power), 15 Q3 (io), 16 Q4 (io), 17 Q5 (io), 18 Q6 (io), 19 Q7 (io), 20 ~{CE} (in), 21 A10 (in), 22 ~{OE}/VPP (in), 23 A11 (in), 24 A9 (in), 25 A8 (in), 26 A13 (in), 27 A14 (in), 28 VCC (power)

## M27C512-12XN1
designator U?
512 Kbit (64Kb x 8) UV EPROM and OTP EPROM; Published: 24-Aug-2001; LatestRevisionDate: 6-Jun-2005; LatestRevisionNote: Stylized 3D Model Added.; DatasheetDocument: Nov-1998; PackageDocument: Jul-1998; PackageReference: TSOP28; Publisher: Altium Limited; ComponentLink1Description: Manufacturer Link; ComponentLink1URL: http://www.st.com/; ComponentLink2Description: Datasheet; ComponentLink2URL: http://www.st.com/stonline/products/literature/ds/2387/m27c512.pdf
footprint TSOP28 (Shrink Small Outline; 28 Leads; Body Width 11.8 mm; Pitch 0.55 mm)
3D model TSOP28 (Shrink Small Outline; 28 Leads; Body Width 11.8 mm; Pitch 0.55 mm)
pins: 1 A15 (in), 2 A12 (in), 3 A7 (in), 4 A6 (in), 5 A5 (in), 6 A4 (in), 7 A3 (in), 8 A2 (in), 9 A1 (in), 10 A0 (in), 11 Q0 (io), 12 Q1 (io), 13 Q2 (io), 14 GND (power), 15 Q3 (io), 16 Q4 (io), 17 Q5 (io), 18 Q6 (io), 19 Q7 (io), 20 ~{CE} (in), 21 A10 (in), 22 ~{OE}/VPP (in), 23 A11 (in), 24 A9 (in), 25 A8 (in), 26 A13 (in), 27 A14 (in), 28 VCC (power)

## M27C512-12XN3
designator U?
512 Kbit (64Kb x 8) UV EPROM and OTP EPROM; Published: 24-Aug-2001; LatestRevisionDate: 6-Jun-2005; LatestRevisionNote: Stylized 3D Model Added.; DatasheetDocument: Nov-1998; PackageDocument: Jul-1998; PackageReference: TSOP28; Publisher: Altium Limited; ComponentLink1Description: Manufacturer Link; ComponentLink1URL: http://www.st.com/; ComponentLink2Description: Datasheet; ComponentLink2URL: http://www.st.com/stonline/products/literature/ds/2387/m27c512.pdf
footprint TSOP28 (Shrink Small Outline; 28 Leads; Body Width 11.8 mm; Pitch 0.55 mm)
3D model TSOP28 (Shrink Small Outline; 28 Leads; Body Width 11.8 mm; Pitch 0.55 mm)
pins: 1 A15 (in), 2 A12 (in), 3 A7 (in), 4 A6 (in), 5 A5 (in), 6 A4 (in), 7 A3 (in), 8 A2 (in), 9 A1 (in), 10 A0 (in), 11 Q0 (io), 12 Q1 (io), 13 Q2 (io), 14 GND (power), 15 Q3 (io), 16 Q4 (io), 17 Q5 (io), 18 Q6 (io), 19 Q7 (io), 20 ~{CE} (in), 21 A10 (in), 22 ~{OE}/VPP (in), 23 A11 (in), 24 A9 (in), 25 A8 (in), 26 A13 (in), 27 A14 (in), 28 VCC (power)

## M27C512-12XN6
designator U?
512 Kbit (64Kb x 8) UV EPROM and OTP EPROM; Published: 24-Aug-2001; LatestRevisionDate: 6-Jun-2005; LatestRevisionNote: Stylized 3D Model Added.; DatasheetDocument: Nov-1998; PackageDocument: Jul-1998; PackageReference: TSOP28; Publisher: Altium Limited; ComponentLink1Description: Manufacturer Link; ComponentLink1URL: http://www.st.com/; ComponentLink2Description: Datasheet; ComponentLink2URL: http://www.st.com/stonline/products/literature/ds/2387/m27c512.pdf
footprint TSOP28 (Shrink Small Outline; 28 Leads; Body Width 11.8 mm; Pitch 0.55 mm)
3D model TSOP28 (Shrink Small Outline; 28 Leads; Body Width 11.8 mm; Pitch 0.55 mm)
pins: 1 A15 (in), 2 A12 (in), 3 A7 (in), 4 A6 (in), 5 A5 (in), 6 A4 (in), 7 A3 (in), 8 A2 (in), 9 A1 (in), 10 A0 (in), 11 Q0 (io), 12 Q1 (io), 13 Q2 (io), 14 GND (power), 15 Q3 (io), 16 Q4 (io), 17 Q5 (io), 18 Q6 (io), 19 Q7 (io), 20 ~{CE} (in), 21 A10 (in), 22 ~{OE}/VPP (in), 23 A11 (in), 24 A9 (in), 25 A8 (in), 26 A13 (in), 27 A14 (in), 28 VCC (power)

## M27C512-15B1
designator U?
512 Kbit (64Kb x 8) UV EPROM and OTP EPROM; Published: 24-Aug-2001; LatestRevisionDate: 6-Jun-2005; LatestRevisionNote: Stylized 3D Model Added.; DatasheetDocument: Nov-1998; PackageDocument: Jan-2003; PackageReference: PDIP28; Publisher: Altium Limited; ComponentLink1Description: Manufacturer Link; ComponentLink1URL: http://www.st.com/; ComponentLink2Description: Datasheet; ComponentLink2URL: http://www.st.com/stonline/products/literature/ds/2387/m27c512.pdf
footprint PDIP28 (DIP; 28 Leads; Row Spacing 15.24 mm; Pitch 2.54 mm)
3D model FDIP28W (DIP; 28 Leads; Row Spacing 15.24 mm; Pitch 2.54 mm)
pins: 1 A15 (in), 2 A12 (in), 3 A7 (in), 4 A6 (in), 5 A5 (in), 6 A4 (in), 7 A3 (in), 8 A2 (in), 9 A1 (in), 10 A0 (in), 11 Q0 (io), 12 Q1 (io), 13 Q2 (io), 14 GND (power), 15 Q3 (io), 16 Q4 (io), 17 Q5 (io), 18 Q6 (io), 19 Q7 (io), 20 ~{CE} (in), 21 A10 (in), 22 ~{OE}/VPP (in), 23 A11 (in), 24 A9 (in), 25 A8 (in), 26 A13 (in), 27 A14 (in), 28 VCC (power)

## M27C512-15B3
designator U?
512 Kbit (64Kb x 8) UV EPROM and OTP EPROM; Published: 24-Aug-2001; LatestRevisionDate: 6-Jun-2005; LatestRevisionNote: Stylized 3D Model Added.; DatasheetDocument: Nov-1998; PackageDocument: Jan-2003; PackageReference: PDIP28; Publisher: Altium Limited; ComponentLink1Description: Manufacturer Link; ComponentLink1URL: http://www.st.com/; ComponentLink2Description: Datasheet; ComponentLink2URL: http://www.st.com/stonline/products/literature/ds/2387/m27c512.pdf
footprint PDIP28 (DIP; 28 Leads; Row Spacing 15.24 mm; Pitch 2.54 mm)
3D model FDIP28W (DIP; 28 Leads; Row Spacing 15.24 mm; Pitch 2.54 mm)
pins: 1 A15 (in), 2 A12 (in), 3 A7 (in), 4 A6 (in), 5 A5 (in), 6 A4 (in), 7 A3 (in), 8 A2 (in), 9 A1 (in), 10 A0 (in), 11 Q0 (io), 12 Q1 (io), 13 Q2 (io), 14 GND (power), 15 Q3 (io), 16 Q4 (io), 17 Q5 (io), 18 Q6 (io), 19 Q7 (io), 20 ~{CE} (in), 21 A10 (in), 22 ~{OE}/VPP (in), 23 A11 (in), 24 A9 (in), 25 A8 (in), 26 A13 (in), 27 A14 (in), 28 VCC (power)

## M27C512-15B6
designator U?
512 Kbit (64Kb x 8) UV EPROM and OTP EPROM; Published: 24-Aug-2001; LatestRevisionDate: 6-Jun-2005; LatestRevisionNote: Stylized 3D Model Added.; DatasheetDocument: Nov-1998; PackageDocument: Jan-2003; PackageReference: PDIP28; Publisher: Altium Limited; ComponentLink1Description: Manufacturer Link; ComponentLink1URL: http://www.st.com/; ComponentLink2Description: Datasheet; ComponentLink2URL: http://www.st.com/stonline/products/literature/ds/2387/m27c512.pdf
footprint PDIP28 (DIP; 28 Leads; Row Spacing 15.24 mm; Pitch 2.54 mm)
3D model FDIP28W (DIP; 28 Leads; Row Spacing 15.24 mm; Pitch 2.54 mm)
pins: 1 A15 (in), 2 A12 (in), 3 A7 (in), 4 A6 (in), 5 A5 (in), 6 A4 (in), 7 A3 (in), 8 A2 (in), 9 A1 (in), 10 A0 (in), 11 Q0 (io), 12 Q1 (io), 13 Q2 (io), 14 GND (power), 15 Q3 (io), 16 Q4 (io), 17 Q5 (io), 18 Q6 (io), 19 Q7 (io), 20 ~{CE} (in), 21 A10 (in), 22 ~{OE}/VPP (in), 23 A11 (in), 24 A9 (in), 25 A8 (in), 26 A13 (in), 27 A14 (in), 28 VCC (power)

## M27C512-15C1
designator U?
512 Kbit (64Kb x 8) UV EPROM and OTP EPROM; Note: Do Not Use (DU) pin numbers 1 and 17.; Published: 24-Aug-2001; LatestRevisionDate: 6-Jun-2005; LatestRevisionNote: Stylized 3D Model Added.; DatasheetDocument: Nov-1998; PackageDocument: Jun-1998; PackageReference: PLCC32; Publisher: Altium Limited; Code_JEDEC: MS-016-AE; Code_IPC: PLCC/R-32; ComponentLink1Description: Manufacturer Link; ComponentLink1URL: http://www.st.com/; ComponentLink2Description: Datasheet; ComponentLink2URL: http://www.st.com/stonline/products/literature/ds/2387/m27c512.pdf
footprint PLCC32 (Leaded Chip Carrier; 32 Leads; Body 11.4 x 14 mm)
3D model M27C512-PLCC32 (Leaded Chip Carrier; 32 Leads; Body 11.4 x 14 mm)
pins: 1 DU, 2 A15 (in), 3 A12 (in), 4 A7 (in), 5 A6 (in), 6 A5 (in), 7 A4 (in), 8 A3 (in), 9 A2 (in), 10 A1, 11 A0 (in), 12 NC, 13 Q0 (io), 14 Q1 (io), 15 Q2 (io), 16 GND, 17 DU, 18 Q3 (io), 19 Q4 (io), 20 Q5 (io), 21 Q6 (io), 22 Q7 (io), 23 ~{CE} (in), 24 A10 (in), 25 ~{OE}/VPP (in), 26 NC, 27 A11 (in), 28 A9 (in), 29 A8 (in), 30 A13 (in), 31 A14 (in), 32 VCC

## M27C512-15C6
designator U?
512 Kbit (64Kb x 8) UV EPROM and OTP EPROM; Note: Do Not Use (DU) pin numbers 1 and 17.; Published: 24-Aug-2001; LatestRevisionDate: 6-Jun-2005; LatestRevisionNote: Stylized 3D Model Added.; DatasheetDocument: Nov-1998; PackageDocument: Jun-1998; PackageReference: PLCC32; Publisher: Altium Limited; Code_JEDEC: MS-016-AE; Code_IPC: PLCC/R-32; ComponentLink1Description: Manufacturer Link; ComponentLink1URL: http://www.st.com/; ComponentLink2Description: Datasheet; ComponentLink2URL: http://www.st.com/stonline/products/literature/ds/2387/m27c512.pdf
footprint PLCC32 (Leaded Chip Carrier; 32 Leads; Body 11.4 x 14 mm)
3D model M27C512-PLCC32 (Leaded Chip Carrier; 32 Leads; Body 11.4 x 14 mm)
pins: 1 DU, 2 A15 (in), 3 A12 (in), 4 A7 (in), 5 A6 (in), 6 A5 (in), 7 A4 (in), 8 A3 (in), 9 A2 (in), 10 A1, 11 A0 (in), 12 NC, 13 Q0 (io), 14 Q1 (io), 15 Q2 (io), 16 GND, 17 DU, 18 Q3 (io), 19 Q4 (io), 20 Q5 (io), 21 Q6 (io), 22 Q7 (io), 23 ~{CE} (in), 24 A10 (in), 25 ~{OE}/VPP (in), 26 NC, 27 A11 (in), 28 A9 (in), 29 A8 (in), 30 A13 (in), 31 A14 (in), 32 VCC

## M27C512-15F1
designator U?
512 Kbit (64Kb x 8) UV EPROM and OTP EPROM; Published: 24-Aug-2001; LatestRevisionDate: 6-Jun-2005; LatestRevisionNote: Stylized 3D Model Added.; DatasheetDocument: Nov-1998; PackageReference: FDIP28W; Publisher: Altium Limited; ComponentLink1Description: Manufacturer Link; ComponentLink1URL: http://www.st.com/; ComponentLink2Description: Datasheet; ComponentLink2URL: http://www.st.com/stonline/products/literature/ds/2387/m27c512.pdf
footprint FDIP28W (Ceramic Frit-seal DIP, Window; 28 Leads; Row Spacing 15.24 mm; Pitch 2.54 mm)
3D model FDIP28W (Ceramic Frit-seal DIP, Window; 28 Leads; Row Spacing 15.24 mm; Pitch 2.54 mm)
pins: 1 A15 (in), 2 A12 (in), 3 A7 (in), 4 A6 (in), 5 A5 (in), 6 A4 (in), 7 A3 (in), 8 A2 (in), 9 A1 (in), 10 A0 (in), 11 Q0 (io), 12 Q1 (io), 13 Q2 (io), 14 GND (power), 15 Q3 (io), 16 Q4 (io), 17 Q5 (io), 18 Q6 (io), 19 Q7 (io), 20 ~{CE} (in), 21 A10 (in), 22 ~{OE}/VPP (in), 23 A11 (in), 24 A9 (in), 25 A8 (in), 26 A13 (in), 27 A14 (in), 28 VCC (power)